# EAGLE library part MAX1044 (library jaapie)
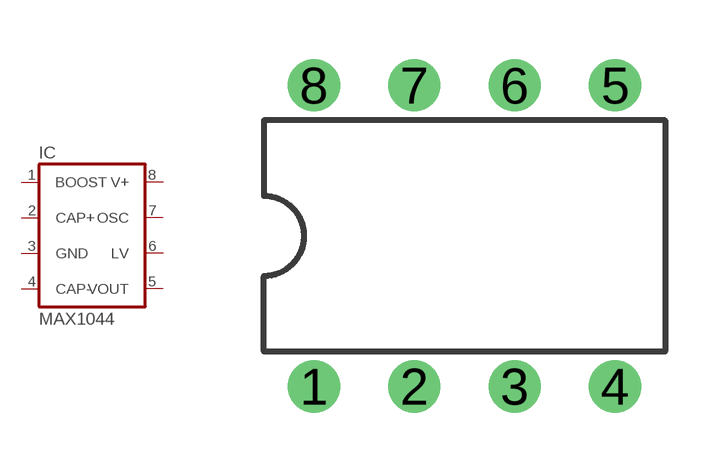
[diagram p2: symbol with the pads of DIL08; footprint DIL08]

Designator prefix IC

## MAX1044  [DIL08]
1  BOOST
2  CAP+
3  GND  pwr
4  CAP-
5  VOUT  pwr
6  LV
7  OSC
8  V+  pwr

## Footprint DIL08 (pad centres in mm)
Dual In Line Package
drill 0.813 pad 1.27: 1 -3.81,-3.81; 2 -1.27,-3.81; 3 1.27,-3.81; 4 3.81,-3.81; 5 3.81,3.81; 6 1.27,3.81; 7 -1.27,3.81; 8 -3.81,3.81